# EAGLE library part MICROBUILDER_LIGHT_TCS3472 (library tcs34725)
TCS3472 RGB + Clear Color Sensor VDD: 2.7-3.6V Temp: -30 - 70°C IR light blocking filter 3,800,000:1 Dynamic Range 2.5µA sleep state Part IDs TCS34725: I2C bus logic = VDD, I2C address: 0x29 TCS34727: I2C bus logic = 1.8V, I2C address: 0x29
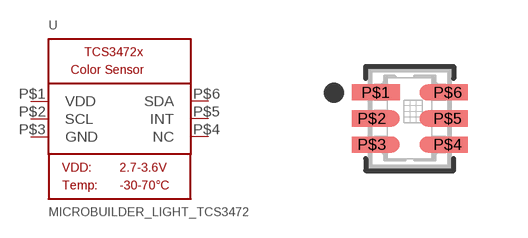
[diagram p0: symbol with the pads of MICROBUILDER_TCS3472_FN6; footprint MICROBUILDER_TCS3472_FN6]

Designator prefix -

## MICROBUILDER_LIGHT_TCS3472  [MICROBUILDER_TCS3472_FN6]
P$1  VDD  pwr
P$2  SCL
P$3  GND  pwr
P$4  NC  nc
P$5  INT  out
P$6  SDA

## Footprint MICROBUILDER_TCS3472_FN6 (pad centres in mm)
smd 1.2 x 0.4: P$1 -0.85,0.65
smd 1 x 0.4: P$2 -0.95,0; P$3 -0.95,-0.65; P$4 0.95,-0.65; P$5 0.95,0; P$6 0.95,0.65